# Altium integrated library TI Power Management Lighting and Display.IntLib: 745 symbols (part 47 of 48)
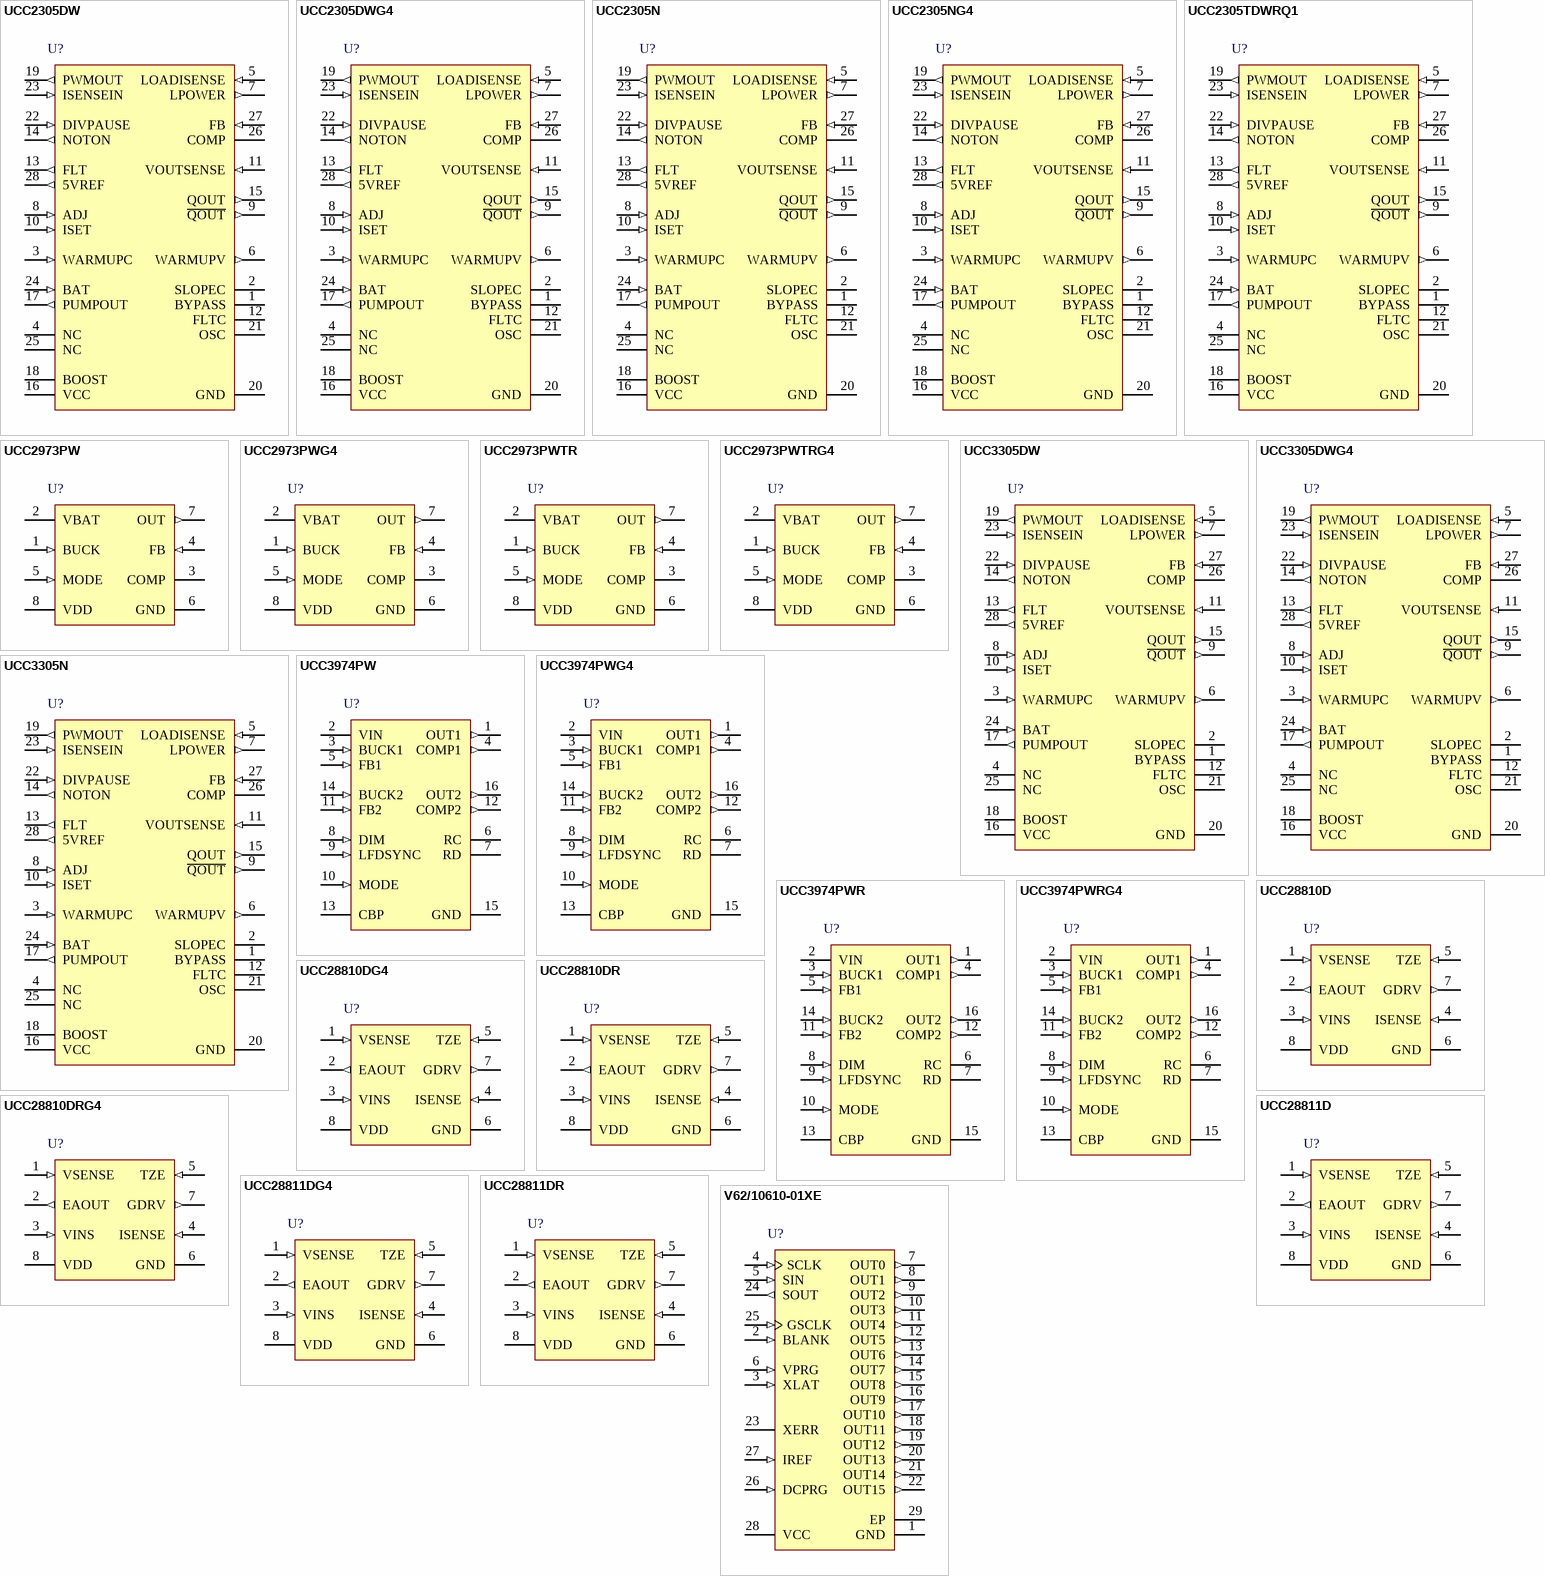
[diagram p77: symbols UCC2305DW to V62/10610-01XE]

## UCC2305NG4
designator U?
HID Lamp Controller, 5 to 18 V, -40 to 85 degC, 28-pin DIP (N28), Green (RoHS & no Sb/Br); Manufacturer: Texas Instruments; PartNumber: UCC2305NG4; Control Topology: Boost, Flyback; Frequency(Max)(kHz): 200; Open Lamp Detect: TRUE; Rating: Catalog; Vin(Max)(V): 18; Vin(Min)(V): 5; DatasheetVersion: SLUS297B; PackageVersion: 4040053/B; PackageReference: N28; PackageDescription: 28-Pin Plastic In-Line, Body 36.32 x 13.715 mm, Pitch 2.54 mm; Supplier 1: Digi-Key; Supplier Part Number 1: UCC2305NG4-ND; Supplier 2: Newark; Supplier Part Number 2: 34M0241; Supplier 3: Mouser; Supplier Part Number 3: 595-UCC2305NG4; Eco-Plan: Green (RoHS & no Sb/Br); SubFamily: HID Lamp Controller; Mounting Technology: Through Hole; Code_JEDEC: MS-011; ComponentLink1Description: Manufacturer URL; ComponentLink1URL: http://www.ti.com/; ComponentLink2Description: Datasheet; ComponentLink2URL: http://www.ti.com/general/docs/lit/getliterature.tsp?genericPartNumber=UCC2305&fileType=pdf; ComponentLink3Description: Package Specification; ComponentLink3URL: http://www.ti.com/litv/pdf/mpdi008
footprint TI-N28 (DIP, 28-Leads, Body 36.32x13.715 mm, Pitch 2.54 mm)
pins: 1 BYPASS "The UCC3305 compensates for lamp temperature changes by changing the voltage on the SLOPEC and WARMUPC capacitors. These voltages rise as the lamp warms up. An internal calculation determines what power should be applied to (See Datasheet)", 2 SLOPEC "To track lamp warm-up and cool down, two capacitors connected to the UCC3305 charge and discharge.One is connected to SLOPEC. The other is connected to WARMUPC. The capacitor connected to SLOPEC charges up to 5V with a rate (See Datasheet)", 3 WARMUPC (in) "In addition to the capacitor from SLOPEC to GND, lamp temperature is estimated by the voltage on a capacitor from WARMUPC to GND. This capacitor is charged by a 200nA current source to 4.2V and by a 100nA current source from (See Datasheet)", 4 NC, 5 LOADISENSE (in) "Just as ISENSEIN is normally connected to a current sense resistor which monitors battery current, LOADISENSE is normally connected to a resistor which monitors lamp current. Lamp current is then regulated by the controller (See Datasheet)", 6 WARMUPV (out) "The voltage on WARMUPC is used to modulate the signal fed to the error amplifier through FB. However, the impedance on WARMUPC is too high to be directly used. The UCC3305 contains a buffer amplifier which buffers the (See Datasheet)", 7 LPOWER (out) "LOADISENSE directly drives one input of an op amp in the UCC3305. This amplifier amplifies the difference between the desired load current and the actual load current, and generates an output signal on LPOWER which feeds the (See Datasheet)", 8 ADJ (in) "The ratio of cold lamp peak current to warmed-up lamp peak current is controlled by the voltage on ADJ. To select this voltage, connect a resistor from ADJ to GND.", 9 ~{QOUT} (out) "The UCC3305 is immediately configured for DC HID lamps. To operate with AC HID lamps, it is necessary to add a power H-bridge which will toggle lamp voltage. A practical switching frequency for this toggle function is the (See Datasheet)", 10 ISET (in) "Many functions inside the UCC3305 require precise currents to give well controlled performance. These controlled currents are programmed by a resistor from  ISET to GND. A resistor of 100k programs the IC to normal operating (See Datasheet)", 11 VOUTSENSE (in) "The VOUTSENSE input is used to sense lamp voltage, commonly through a 120:1 voltage divider. For a normal, running HID lamp, the voltage across the lamp is between 60V and 110V. It takes higher than 300V to break down the (See Datasheet)", 12 FLTC "The voltage on VOUTSENSE is proportional to lamp voltage. If that voltage is too high or too low, the lamp is either open, shorted, or not yet running. During normal operation, there is a capacitor connected to FLTC, and (See Datasheet)", 13 FLT (out) "If the voltage on the FLTC pin exceeds 5V, indicating a severe fault, then a latch in the UCC3305 sets and PWM drive is halted. In addition, the FLT output goes high to VCC, indicating a serious system fault.", 14 NOTON (out) "While the lamp is in a fault condition, such as excessively high or low lamp voltage, NOTON is pulled high to VCC, indicating that the arc is not yet correct. When the voltage on VOUTSENSE is within the 83mV to 2V window, (See Datasheet)", 15 QOUT (out) "The QOUT pin is a logic output which toggles at the OSC frequency divided by 512, 180 degrees out of phase with the Q\O\U\T\ pin.", 16 VCC (power) "Supply Voltage", 17 PUMPOUT (out) "Although the UCC3305 is powered from the VCC input, most functions of the device operate from a supply voltage of approximately 10V connected to BOOST. In normal operation, this 10V supply is generated by a voltage doubler (See Datasheet)", 18 BOOST (power) "Although the UCC3305 is powered from the VCC input, most functions of the device operate from a supply voltage of approximately 10V connected to BOOST. This 10V supply can be generated by a voltage doubler using PUMPOUT as (See Datasheet)", 19 PWMOUT (out) "The output of the pulse width modulator is a command signal to a power MOSFET switch. This signal appears on PWMOUT. In normal systems,PWM-OUT can be directly connected to the gate of an N-channel power MOSFET such as the (See Datasheet)", 20 GND (power) "Ground for all functions is through this pin.", 21 OSC "The fixed frequency PWM in the UCC3305 operates at the frequency programmed by the OSC pin.Typically, a a 200pF capacitor from OSC to GND programs the PWM frequency at 100kHz. In addition, this programs the charge pump at (See Datasheet)", 22 DIVPAUSE (in) "The QOUT and Q\O\U\T\ outputs can be used to switch lamp polarity in an AC ballast. It is important to stop polarity switching when the lamp is being lit, so that the arc across the electrodes can form in the correct place. (See Datasheet)", 23 ISENSEIN (in) "The power regulating algorithm in the UCC3305 HID Controller computes a function of lamp current and lamp voltage and commands the appropriate battery current to keep lamp power constant. This appropriate battery current is (See Datasheet)", 24 BAT (in) "This input is used to detect excessively high input voltage and shut down the IC if the input exceeds a predetermined level. Connect BAT to a voltage divider across the input supply. The UCC3305 shuts down when this input (See Datasheet)", 25 NC, 26 COMP "Differences between commanded lamp power and desired lamp power are amplified by an error amplifier.This amplifier senses the difference between the voltage at FB and 2.5V, and drives COMP with an amplified error voltage. A (See Datasheet)", 27 FB (in) "Differences between commanded lamp power and desired lamp power are amplified by an error amplifier.This amplifier senses the difference between the voltage at FB and 2.5V, and drives COMP with an amplified error voltage.", 28 5VREF (out) "Circuitry in the UCC3305 uses the internal 5V reference to set currents and thresholds. This reference can also be used for other functions if required."

## UCC2305TDWRQ1
designator U?
Automotive Catalog HID Lamp Controller, 5 to 18 V, -40 to 105 degC, 28-pin SOIC (DW28), Green (RoHS & no Sb/Br); Manufacturer: Texas Instruments; PartNumber: UCC2305TDWRQ1; Control Topology: Boost, Flyback; Frequency(Max)(kHz): 200; Open Lamp Detect: TRUE; Vin(Max)(V): 18; Vin(Min)(V): 5; DatasheetVersion: SLUSA23; PackageVersion: 4040000-6/G; PackageReference: DW28; PackageDescription: 28-Pin Plastic Small Outline, Body 17.90 x 7.50 mm, Pitch 1.27 mm; Supplier 1: Digi-Key; Supplier Part Number 1: 296-25744-2-ND; Supplier 2: Digi-Key; Supplier Part Number 2: 296-25744-1-ND; Supplier 3: Digi-Key; Supplier Part Number 3: 296-25744-6-ND; Supplier 4: Newark; Supplier Part Number 4: 64R0808; Supplier 5: Mouser; Supplier Part Number 5: 595-UCC2305TDWRQ1; Eco-Plan: Green (RoHS & no Sb/Br); Rating: Automotive; SubFamily: HID Lamp Controller; Mounting Technology: Surface Mount; Code_JEDEC: MS-013; ComponentLink1Description: Manufacturer URL; ComponentLink1URL: http://www.ti.com/; ComponentLink2Description: Datasheet; ComponentLink2URL: http://www.ti.com/general/docs/lit/getliterature.tsp?genericPartNumber=UCC2305-Q1&fileType=pdf; ComponentLink3Description: Package Specification; ComponentLink3URL: http://www.ti.com/lit/ml/mpds175a/mpds175a.pdf
footprint TI-DW28_N (SOIC, 28-Leads, Body 17.9x7.5mm, Pitch 1.27mm, IPC Medium Density)
footprint TI-DW28_L (SOIC, 28-Leads, Body 17.9x7.5mm, Pitch 1.27mm, IPC High Density)
footprint TI-DW28_M (SOIC, 28-Leads, Body 17.9x7.5mm, Pitch 1.27mm, IPC Low Density)
pins: 1 BYPASS "The UCC3305 compensates for lamp temperature changes by changing the voltage on the SLOPEC and WARMUPC capacitors. These voltages rise as the lamp warms up. An internal calculation determines what power should be applied to (See Datasheet)", 2 SLOPEC "To track lamp warm-up and cool down, two capacitors connected to the UCC3305 charge and discharge.One is connected to SLOPEC. The other is connected to WARMUPC. The capacitor connected to SLOPEC charges up to 5V with a rate (See Datasheet)", 3 WARMUPC (in) "In addition to the capacitor from SLOPEC to GND, lamp temperature is estimated by the voltage on a capacitor from WARMUPC to GND. This capacitor is charged by a 200nA current source to 4.2V and by a 100nA current source from (See Datasheet)", 4 NC, 5 LOADISENSE (in) "Just as ISENSEIN is normally connected to a current sense resistor which monitors battery current, LOADISENSE is normally connected to a resistor which monitors lamp current. Lamp current is then regulated by the controller (See Datasheet)", 6 WARMUPV (out) "The voltage on WARMUPC is used to modulate the signal fed to the error amplifier through FB. However, the impedance on WARMUPC is too high to be directly used. The UCC3305 contains a buffer amplifier which buffers the (See Datasheet)", 7 LPOWER (out) "LOADISENSE directly drives one input of an op amp in the UCC3305. This amplifier amplifies the difference between the desired load current and the actual load current, and generates an output signal on LPOWER which feeds the (See Datasheet)", 8 ADJ (in) "The ratio of cold lamp peak current to warmed-up lamp peak current is controlled by the voltage on ADJ. To select this voltage, connect a resistor from ADJ to GND.", 9 ~{QOUT} (out) "The UCC3305 is immediately configured for DC HID lamps. To operate with AC HID lamps, it is necessary to add a power H-bridge which will toggle lamp voltage. A practical switching frequency for this toggle function is the (See Datasheet)", 10 ISET (in) "Many functions inside the UCC3305 require precise currents to give well controlled performance. These controlled currents are programmed by a resistor from  ISET to GND. A resistor of 100k programs the IC to normal operating (See Datasheet)", 11 VOUTSENSE (in) "The VOUTSENSE input is used to sense lamp voltage, commonly through a 120:1 voltage divider. For a normal, running HID lamp, the voltage across the lamp is between 60V and 110V. It takes higher than 300V to break down the (See Datasheet)", 12 FLTC "The voltage on VOUTSENSE is proportional to lamp voltage. If that voltage is too high or too low, the lamp is either open, shorted, or not yet running. During normal operation, there is a capacitor connected to FLTC, and (See Datasheet)", 13 FLT (out) "If the voltage on the FLTC pin exceeds 5V, indicating a severe fault, then a latch in the UCC3305 sets and PWM drive is halted. In addition, the FLT output goes high to VCC, indicating a serious system fault.", 14 NOTON (out) "While the lamp is in a fault condition, such as excessively high or low lamp voltage, NOTON is pulled high to VCC, indicating that the arc is not yet correct. When the voltage on VOUTSENSE is within the 83mV to 2V window, (See Datasheet)", 15 QOUT (out) "The QOUT pin is a logic output which toggles at the OSC frequency divided by 512, 180 degrees out of phase with the Q\O\U\T\ pin.", 16 VCC (power) "Supply Voltage", 17 PUMPOUT (out) "Although the UCC3305 is powered from the VCC input, most functions of the device operate from a supply voltage of approximately 10V connected to BOOST. In normal operation, this 10V supply is generated by a voltage doubler (See Datasheet)", 18 BOOST (power) "Although the UCC3305 is powered from the VCC input, most functions of the device operate from a supply voltage of approximately 10V connected to BOOST. This 10V supply can be generated by a voltage doubler using PUMPOUT as (See Datasheet)", 19 PWMOUT (out) "The output of the pulse width modulator is a command signal to a power MOSFET switch. This signal appears on PWMOUT. In normal systems,PWM-OUT can be directly connected to the gate of an N-channel power MOSFET such as the (See Datasheet)", 20 GND (power) "Ground for all functions is through this pin.", 21 OSC "The fixed frequency PWM in the UCC3305 operates at the frequency programmed by the OSC pin.Typically, a a 200pF capacitor from OSC to GND programs the PWM frequency at 100kHz. In addition, this programs the charge pump at (See Datasheet)", 22 DIVPAUSE (in) "The QOUT and Q\O\U\T\ outputs can be used to switch lamp polarity in an AC ballast. It is important to stop polarity switching when the lamp is being lit, so that the arc across the electrodes can form in the correct place. (See Datasheet)", 23 ISENSEIN (in) "The power regulating algorithm in the UCC3305 HID Controller computes a function of lamp current and lamp voltage and commands the appropriate battery current to keep lamp power constant. This appropriate battery current is (See Datasheet)", 24 BAT (in) "This input is used to detect excessively high input voltage and shut down the IC if the input exceeds a predetermined level. Connect BAT to a voltage divider across the input supply. The UCC3305 shuts down when this input (See Datasheet)", 25 NC, 26 COMP "Differences between commanded lamp power and desired lamp power are amplified by an error amplifier.This amplifier senses the difference between the voltage at FB and 2.5V, and drives COMP with an amplified error voltage. A (See Datasheet)", 27 FB (in) "Differences between commanded lamp power and desired lamp power are amplified by an error amplifier.This amplifier senses the difference between the voltage at FB and 2.5V, and drives COMP with an amplified error voltage.", 28 5VREF (out) "Circuitry in the UCC3305 uses the internal 5V reference to set currents and thresholds. This reference can also be used for other functions if required."

## UCC2973PW
designator U?
BiCMOS Cold Cathode Fluorescent Lamp Driver Controller, 4.5 to 25 V, -40 to 85 degC, 8-pin SOP (PW8), Green (RoHS & no Sb/Br); Manufacturer: Texas Instruments; PartNumber: UCC2973PW; Control Topology: Push-Pull; Frequency(Max)(kHz): 220; Open Lamp Detect: TRUE; Rating: Catalog; SubFamily: CCFL Backlight Converter; Vin(Max)(V): 25; Vin(Min)(V): 4.5; DatasheetVersion: SLUS252C; PackageVersion: 4040064-2/G; PackageReference: PW8; PackageDescription: 8-Pin Plastic Small Outline, Body 4.4 x 3 mm, Pitch 0.65 mm; Supplier 1: Digi-Key; Supplier Part Number 1: 296-13533-5-ND; Supplier 2: Newark; Supplier Part Number 2: 77C2240; Supplier 3: Mouser; Supplier Part Number 3: 595-UCC2973PW; Eco-Plan: Green (RoHS & no Sb/Br); Mounting Technology: Surface Mount; Code_JEDEC: MO-153; ComponentLink1Description: Manufacturer URL; ComponentLink1URL: http://www.ti.com/; ComponentLink2Description: Datasheet; ComponentLink2URL: http://www.ti.com/general/docs/lit/getliterature.tsp?genericPartNumber=UCC2973&fileType=pdf; ComponentLink3Description: Package Specification; ComponentLink3URL: http://www.ti.com/litv/pdf/mtss001d
footprint TI-PW8_N (SOP, 8-Leads, Body 4.4x3mm, Pitch 0.65mm, IPC Medium Density)
footprint TI-PW8_L (SOP, 8-Leads, Body 4.4x3mm, Pitch 0.65mm, IPC High Density)
footprint TI-PW8_M (SOP, 8-Leads, Body 4.4x3mm, Pitch 0.65mm, IPC Low Density)
pins: 1 BUCK (in) "Senses the voltage on the top side of the inductor feeding the resonant tank. The voltage at this point is used to synchronize the internally generated ramp and to detect whether an open lamp condition exists. An open lamp (See Datasheet)", 2 VBAT (power) "Positive input supply to power stage. This voltage is required by internal control circuitry to provide open-lamp detection and synchronization. Operating range is from 4.5V to 25V.", 3 COMP "Output of the error amplifier.Compensation components set the bandwidth of the entire system and are normally connected between COMP and FB. The error amplifier averages lamp current against a fixed internal reference. The (See Datasheet)", 4 FB (in) "This pin is the inverting input to the error amplifier. On the UCC3973, current is sourced form this pin if the clamp threshold is exceeded at the BUCK pin (see below). The sourced current will reduce OUT duty cycle to (See Datasheet)", 5 MODE (in) "The voltage on this pin is used to control start-up and various modes of operation for the part (refer to the table in the block diagram). When the voltage is below 1V, OUT is forced low, open lamp detection is disabled and (See Datasheet)", 6 GND (power) "Ground reference for the IC.", 7 OUT (out) "Drives the buck regulator N-channel MOSFET. OUT turn-on is synchronized to twice the tank resonant frequency. OUT is actively pulled low when in UVLO, an open lamp condition has been detected or MODE is less than 1V.", 8 VDD (power) "This pin connects to the battery voltage from which the CCFL inverter will operate. If the potential on VBAT can exceed 18V in the application, a series resistor must be placed between VBAT and this pin (see applications (See Datasheet)"

## UCC2973PWG4
designator U?
BiCMOS Cold Cathode Fluorescent Lamp Driver Controller, 4.5 to 25 V, -40 to 85 degC, 8-pin SOP (PW8), Green (RoHS & no Sb/Br); Manufacturer: Texas Instruments; PartNumber: UCC2973PWG4; Control Topology: Push-Pull; Frequency(Max)(kHz): 220; Open Lamp Detect: TRUE; Rating: Catalog; SubFamily: CCFL Backlight Converter; Vin(Max)(V): 25; Vin(Min)(V): 4.5; DatasheetVersion: SLUS252C; PackageVersion: 4040064-2/G; PackageReference: PW8; PackageDescription: 8-Pin Plastic Small Outline, Body 4.4 x 3 mm, Pitch 0.65 mm; Supplier 1: Digi-Key; Supplier Part Number 1: UCC2973PWG4-ND; Supplier 2: Newark; Supplier Part Number 2: 66K4869; Supplier 3: Mouser; Supplier Part Number 3: 595-UCC2973PWG4; Eco-Plan: Green (RoHS & no Sb/Br); Mounting Technology: Surface Mount; Code_JEDEC: MO-153; ComponentLink1Description: Manufacturer URL; ComponentLink1URL: http://www.ti.com/; ComponentLink2Description: Datasheet; ComponentLink2URL: http://www.ti.com/general/docs/lit/getliterature.tsp?genericPartNumber=UCC2973&fileType=pdf; ComponentLink3Description: Package Specification; ComponentLink3URL: http://www.ti.com/litv/pdf/mtss001d
footprint TI-PW8_N (SOP, 8-Leads, Body 4.4x3mm, Pitch 0.65mm, IPC Medium Density)
footprint TI-PW8_L (SOP, 8-Leads, Body 4.4x3mm, Pitch 0.65mm, IPC High Density)
footprint TI-PW8_M (SOP, 8-Leads, Body 4.4x3mm, Pitch 0.65mm, IPC Low Density)
pins: 1 BUCK (in) "Senses the voltage on the top side of the inductor feeding the resonant tank. The voltage at this point is used to synchronize the internally generated ramp and to detect whether an open lamp condition exists. An open lamp (See Datasheet)", 2 VBAT (power) "Positive input supply to power stage. This voltage is required by internal control circuitry to provide open-lamp detection and synchronization. Operating range is from 4.5V to 25V.", 3 COMP "Output of the error amplifier.Compensation components set the bandwidth of the entire system and are normally connected between COMP and FB. The error amplifier averages lamp current against a fixed internal reference. The (See Datasheet)", 4 FB (in) "This pin is the inverting input to the error amplifier. On the UCC3973, current is sourced form this pin if the clamp threshold is exceeded at the BUCK pin (see below). The sourced current will reduce OUT duty cycle to (See Datasheet)", 5 MODE (in) "The voltage on this pin is used to control start-up and various modes of operation for the part (refer to the table in the block diagram). When the voltage is below 1V, OUT is forced low, open lamp detection is disabled and (See Datasheet)", 6 GND (power) "Ground reference for the IC.", 7 OUT (out) "Drives the buck regulator N-channel MOSFET. OUT turn-on is synchronized to twice the tank resonant frequency. OUT is actively pulled low when in UVLO, an open lamp condition has been detected or MODE is less than 1V.", 8 VDD (power) "This pin connects to the battery voltage from which the CCFL inverter will operate. If the potential on VBAT can exceed 18V in the application, a series resistor must be placed between VBAT and this pin (see applications (See Datasheet)"

## UCC2973PWTR
designator U?
BiCMOS Cold Cathode Fluorescent Lamp Driver Controller, 4.5 to 25 V, -40 to 85 degC, 8-pin SOP (PW8), Green (RoHS & no Sb/Br); Manufacturer: Texas Instruments; PartNumber: UCC2973PWTR; Control Topology: Push-Pull; Frequency(Max)(kHz): 220; Open Lamp Detect: TRUE; Rating: Catalog; SubFamily: CCFL Backlight Converter; Vin(Max)(V): 25; Vin(Min)(V): 4.5; DatasheetVersion: SLUS252C; PackageVersion: 4040064-2/G; PackageReference: PW8; PackageDescription: 8-Pin Plastic Small Outline, Body 4.4 x 3 mm, Pitch 0.65 mm; Supplier 1: Digi-Key; Supplier Part Number 1: UCC2973PWTR-ND; Supplier 2: Newark; Supplier Part Number 2: 77C2241; Supplier 3: Mouser; Supplier Part Number 3: 595-UCC2973PWTR; Eco-Plan: Green (RoHS & no Sb/Br); Mounting Technology: Surface Mount; Code_JEDEC: MO-153; ComponentLink1Description: Manufacturer URL; ComponentLink1URL: http://www.ti.com/; ComponentLink2Description: Datasheet; ComponentLink2URL: http://www.ti.com/general/docs/lit/getliterature.tsp?genericPartNumber=UCC2973&fileType=pdf; ComponentLink3Description: Package Specification; ComponentLink3URL: http://www.ti.com/litv/pdf/mtss001d
footprint TI-PW8_N (SOP, 8-Leads, Body 4.4x3mm, Pitch 0.65mm, IPC Medium Density)
footprint TI-PW8_L (SOP, 8-Leads, Body 4.4x3mm, Pitch 0.65mm, IPC High Density)
footprint TI-PW8_M (SOP, 8-Leads, Body 4.4x3mm, Pitch 0.65mm, IPC Low Density)
pins: 1 BUCK (in) "Senses the voltage on the top side of the inductor feeding the resonant tank. The voltage at this point is used to synchronize the internally generated ramp and to detect whether an open lamp condition exists. An open lamp (See Datasheet)", 2 VBAT (power) "Positive input supply to power stage. This voltage is required by internal control circuitry to provide open-lamp detection and synchronization. Operating range is from 4.5V to 25V.", 3 COMP "Output of the error amplifier.Compensation components set the bandwidth of the entire system and are normally connected between COMP and FB. The error amplifier averages lamp current against a fixed internal reference. The (See Datasheet)", 4 FB (in) "This pin is the inverting input to the error amplifier. On the UCC3973, current is sourced form this pin if the clamp threshold is exceeded at the BUCK pin (see below). The sourced current will reduce OUT duty cycle to (See Datasheet)", 5 MODE (in) "The voltage on this pin is used to control start-up and various modes of operation for the part (refer to the table in the block diagram). When the voltage is below 1V, OUT is forced low, open lamp detection is disabled and (See Datasheet)", 6 GND (power) "Ground reference for the IC.", 7 OUT (out) "Drives the buck regulator N-channel MOSFET. OUT turn-on is synchronized to twice the tank resonant frequency. OUT is actively pulled low when in UVLO, an open lamp condition has been detected or MODE is less than 1V.", 8 VDD (power) "This pin connects to the battery voltage from which the CCFL inverter will operate. If the potential on VBAT can exceed 18V in the application, a series resistor must be placed between VBAT and this pin (see applications (See Datasheet)"

## UCC2973PWTRG4
designator U?
BiCMOS Cold Cathode Fluorescent Lamp Driver Controller, 4.5 to 25 V, -40 to 85 degC, 8-pin SOP (PW8), Green (RoHS & no Sb/Br); Manufacturer: Texas Instruments; PartNumber: UCC2973PWTRG4; Control Topology: Push-Pull; Frequency(Max)(kHz): 220; Open Lamp Detect: TRUE; Rating: Catalog; SubFamily: CCFL Backlight Converter; Vin(Max)(V): 25; Vin(Min)(V): 4.5; DatasheetVersion: SLUS252C; PackageVersion: 4040064-2/G; PackageReference: PW8; PackageDescription: 8-Pin Plastic Small Outline, Body 4.4 x 3 mm, Pitch 0.65 mm; Supplier 1: Digi-Key; Supplier Part Number 1: UCC2973PWTRG4-ND; Supplier 2: Newark; Supplier Part Number 2: 54K2083; Supplier 3: Mouser; Supplier Part Number 3: 595-UCC2973PWTRG4; Eco-Plan: Green (RoHS & no Sb/Br); Mounting Technology: Surface Mount; Code_JEDEC: MO-153; ComponentLink1Description: Manufacturer URL; ComponentLink1URL: http://www.ti.com/; ComponentLink2Description: Datasheet; ComponentLink2URL: http://www.ti.com/general/docs/lit/getliterature.tsp?genericPartNumber=UCC2973&fileType=pdf; ComponentLink3Description: Package Specification; ComponentLink3URL: http://www.ti.com/litv/pdf/mtss001d
footprint TI-PW8_N (SOP, 8-Leads, Body 4.4x3mm, Pitch 0.65mm, IPC Medium Density)
footprint TI-PW8_L (SOP, 8-Leads, Body 4.4x3mm, Pitch 0.65mm, IPC High Density)
footprint TI-PW8_M (SOP, 8-Leads, Body 4.4x3mm, Pitch 0.65mm, IPC Low Density)
pins: 1 BUCK (in) "Senses the voltage on the top side of the inductor feeding the resonant tank. The voltage at this point is used to synchronize the internally generated ramp and to detect whether an open lamp condition exists. An open lamp (See Datasheet)", 2 VBAT (power) "Positive input supply to power stage. This voltage is required by internal control circuitry to provide open-lamp detection and synchronization. Operating range is from 4.5V to 25V.", 3 COMP "Output of the error amplifier.Compensation components set the bandwidth of the entire system and are normally connected between COMP and FB. The error amplifier averages lamp current against a fixed internal reference. The (See Datasheet)", 4 FB (in) "This pin is the inverting input to the error amplifier. On the UCC3973, current is sourced form this pin if the clamp threshold is exceeded at the BUCK pin (see below). The sourced current will reduce OUT duty cycle to (See Datasheet)", 5 MODE (in) "The voltage on this pin is used to control start-up and various modes of operation for the part (refer to the table in the block diagram). When the voltage is below 1V, OUT is forced low, open lamp detection is disabled and (See Datasheet)", 6 GND (power) "Ground reference for the IC.", 7 OUT (out) "Drives the buck regulator N-channel MOSFET. OUT turn-on is synchronized to twice the tank resonant frequency. OUT is actively pulled low when in UVLO, an open lamp condition has been detected or MODE is less than 1V.", 8 VDD (power) "This pin connects to the battery voltage from which the CCFL inverter will operate. If the potential on VBAT can exceed 18V in the application, a series resistor must be placed between VBAT and this pin (see applications (See Datasheet)"

## UCC3305DW
designator U?
HID Lamp Controller, 5 to 18 V, 0 to 70 degC, 28-pin SOIC (DW28), Green (RoHS & no Sb/Br); Manufacturer: Texas Instruments; PartNumber: UCC3305DW; Control Topology: Boost, Flyback; Frequency(Max)(kHz): 200; Open Lamp Detect: TRUE; Rating: Catalog; Vin(Max)(V): 18; Vin(Min)(V): 5; DatasheetVersion: SLUS297B; PackageVersion: 4040000-6/G; PackageReference: DW28; PackageDescription: 28-Pin Plastic Small Outline, Body 17.90 x 7.50 mm, Pitch 1.27 mm; Supplier 1: Digi-Key; Supplier Part Number 1: 296-34762-5-ND; Supplier 2: Newark; Supplier Part Number 2: 77C2248; Supplier 3: Mouser; Supplier Part Number 3: 595-UCC3305DW; Eco-Plan: Green (RoHS & no Sb/Br); SubFamily: HID Lamp Controller; Mounting Technology: Surface Mount; Code_JEDEC: MS-013; ComponentLink1Description: Manufacturer URL; ComponentLink1URL: http://www.ti.com/; ComponentLink2Description: Datasheet; ComponentLink2URL: http://www.ti.com/general/docs/lit/getliterature.tsp?genericPartNumber=UCC3305&fileType=pdf; ComponentLink3Description: Package Specification; ComponentLink3URL: http://www.ti.com/lit/ml/mpds175a/mpds175a.pdf
footprint TI-DW28_N (SOIC, 28-Leads, Body 17.9x7.5mm, Pitch 1.27mm, IPC Medium Density)
footprint TI-DW28_L (SOIC, 28-Leads, Body 17.9x7.5mm, Pitch 1.27mm, IPC High Density)
footprint TI-DW28_M (SOIC, 28-Leads, Body 17.9x7.5mm, Pitch 1.27mm, IPC Low Density)
pins: 1 BYPASS "The UCC3305 compensates for lamp temperature changes by changing the voltage on the SLOPEC and WARMUPC capacitors. These voltages rise as the lamp warms up. An internal calculation determines what power should be applied to (See Datasheet)", 2 SLOPEC "To track lamp warm-up and cool down, two capacitors connected to the UCC3305 charge and discharge.One is connected to SLOPEC. The other is connected to WARMUPC. The capacitor connected to SLOPEC charges up to 5V with a rate (See Datasheet)", 3 WARMUPC (in) "In addition to the capacitor from SLOPEC to GND, lamp temperature is estimated by the voltage on a capacitor from WARMUPC to GND. This capacitor is charged by a 200nA current source to 4.2V and by a 100nA current source from (See Datasheet)", 4 NC, 5 LOADISENSE (in) "Just as ISENSEIN is normally connected to a current sense resistor which monitors battery current, LOADISENSE is normally connected to a resistor which monitors lamp current. Lamp current is then regulated by the controller (See Datasheet)", 6 WARMUPV (out) "The voltage on WARMUPC is used to modulate the signal fed to the error amplifier through FB. However, the impedance on WARMUPC is too high to be directly used. The UCC3305 contains a buffer amplifier which buffers the (See Datasheet)", 7 LPOWER (out) "LOADISENSE directly drives one input of an op amp in the UCC3305. This amplifier amplifies the difference between the desired load current and the actual load current, and generates an output signal on LPOWER which feeds the (See Datasheet)", 8 ADJ (in) "The ratio of cold lamp peak current to warmed-up lamp peak current is controlled by the voltage on ADJ. To select this voltage, connect a resistor from ADJ to GND.", 9 ~{QOUT} (out) "The UCC3305 is immediately configured for DC HID lamps. To operate with AC HID lamps, it is necessary to add a power H-bridge which will toggle lamp voltage. A practical switching frequency for this toggle function is the (See Datasheet)", 10 ISET (in) "Many functions inside the UCC3305 require precise currents to give well controlled performance. These controlled currents are programmed by a resistor from  ISET to GND. A resistor of 100k programs the IC to normal operating (See Datasheet)", 11 VOUTSENSE (in) "The VOUTSENSE input is used to sense lamp voltage, commonly through a 120:1 voltage divider. For a normal, running HID lamp, the voltage across the lamp is between 60V and 110V. It takes higher than 300V to break down the (See Datasheet)", 12 FLTC "The voltage on VOUTSENSE is proportional to lamp voltage. If that voltage is too high or too low, the lamp is either open, shorted, or not yet running. During normal operation, there is a capacitor connected to FLTC, and (See Datasheet)", 13 FLT (out) "If the voltage on the FLTC pin exceeds 5V, indicating a severe fault, then a latch in the UCC3305 sets and PWM drive is halted. In addition, the FLT output goes high to VCC, indicating a serious system fault.", 14 NOTON (out) "While the lamp is in a fault condition, such as excessively high or low lamp voltage, NOTON is pulled high to VCC, indicating that the arc is not yet correct. When the voltage on VOUTSENSE is within the 83mV to 2V window, (See Datasheet)", 15 QOUT (out) "The QOUT pin is a logic output which toggles at the OSC frequency divided by 512, 180 degrees out of phase with the Q\O\U\T\ pin.", 16 VCC (power) "Supply Voltage", 17 PUMPOUT (out) "Although the UCC3305 is powered from the VCC input, most functions of the device operate from a supply voltage of approximately 10V connected to BOOST. In normal operation, this 10V supply is generated by a voltage doubler (See Datasheet)", 18 BOOST (power) "Although the UCC3305 is powered from the VCC input, most functions of the device operate from a supply voltage of approximately 10V connected to BOOST. This 10V supply can be generated by a voltage doubler using PUMPOUT as (See Datasheet)", 19 PWMOUT (out) "The output of the pulse width modulator is a command signal to a power MOSFET switch. This signal appears on PWMOUT. In normal systems,PWM-OUT can be directly connected to the gate of an N-channel power MOSFET such as the (See Datasheet)", 20 GND (power) "Ground for all functions is through this pin.", 21 OSC "The fixed frequency PWM in the UCC3305 operates at the frequency programmed by the OSC pin.Typically, a a 200pF capacitor from OSC to GND programs the PWM frequency at 100kHz. In addition, this programs the charge pump at (See Datasheet)", 22 DIVPAUSE (in) "The QOUT and Q\O\U\T\ outputs can be used to switch lamp polarity in an AC ballast. It is important to stop polarity switching when the lamp is being lit, so that the arc across the electrodes can form in the correct place. (See Datasheet)", 23 ISENSEIN (in) "The power regulating algorithm in the UCC3305 HID Controller computes a function of lamp current and lamp voltage and commands the appropriate battery current to keep lamp power constant. This appropriate battery current is (See Datasheet)", 24 BAT (in) "This input is used to detect excessively high input voltage and shut down the IC if the input exceeds a predetermined level. Connect BAT to a voltage divider across the input supply. The UCC3305 shuts down when this input (See Datasheet)", 25 NC, 26 COMP "Differences between commanded lamp power and desired lamp power are amplified by an error amplifier.This amplifier senses the difference between the voltage at FB and 2.5V, and drives COMP with an amplified error voltage. A (See Datasheet)", 27 FB (in) "Differences between commanded lamp power and desired lamp power are amplified by an error amplifier.This amplifier senses the difference between the voltage at FB and 2.5V, and drives COMP with an amplified error voltage.", 28 5VREF (out) "Circuitry in the UCC3305 uses the internal 5V reference to set currents and thresholds. This reference can also be used for other functions if required."

## UCC3305DWG4
designator U?
HID Lamp Controller, 5 to 18 V, 0 to 70 degC, 28-pin SOIC (DW28), Green (RoHS & no Sb/Br); Manufacturer: Texas Instruments; PartNumber: UCC3305DWG4; Control Topology: Boost, Flyback; Frequency(Max)(kHz): 200; Open Lamp Detect: TRUE; Rating: Catalog; Vin(Max)(V): 18; Vin(Min)(V): 5; DatasheetVersion: SLUS297B; PackageVersion: 4040000-6/G; PackageReference: DW28; PackageDescription: 28-Pin Plastic Small Outline, Body 17.90 x 7.50 mm, Pitch 1.27 mm; Supplier 1: Digi-Key; Supplier Part Number 1: UCC3305DWG4-ND; Supplier 2: Newark; Supplier Part Number 2: 54K2087; Supplier 3: Mouser; Supplier Part Number 3: 595-UCC3305DWG4; Eco-Plan: Green (RoHS & no Sb/Br); SubFamily: HID Lamp Controller; Mounting Technology: Surface Mount; Code_JEDEC: MS-013; ComponentLink1Description: Manufacturer URL; ComponentLink1URL: http://www.ti.com/; ComponentLink2Description: Datasheet; ComponentLink2URL: http://www.ti.com/general/docs/lit/getliterature.tsp?genericPartNumber=UCC3305&fileType=pdf; ComponentLink3Description: Package Specification; ComponentLink3URL: http://www.ti.com/lit/ml/mpds175a/mpds175a.pdf
footprint TI-DW28_N (SOIC, 28-Leads, Body 17.9x7.5mm, Pitch 1.27mm, IPC Medium Density)
footprint TI-DW28_L (SOIC, 28-Leads, Body 17.9x7.5mm, Pitch 1.27mm, IPC High Density)
footprint TI-DW28_M (SOIC, 28-Leads, Body 17.9x7.5mm, Pitch 1.27mm, IPC Low Density)
pins: 1 BYPASS "The UCC3305 compensates for lamp temperature changes by changing the voltage on the SLOPEC and WARMUPC capacitors. These voltages rise as the lamp warms up. An internal calculation determines what power should be applied to (See Datasheet)", 2 SLOPEC "To track lamp warm-up and cool down, two capacitors connected to the UCC3305 charge and discharge.One is connected to SLOPEC. The other is connected to WARMUPC. The capacitor connected to SLOPEC charges up to 5V with a rate (See Datasheet)", 3 WARMUPC (in) "In addition to the capacitor from SLOPEC to GND, lamp temperature is estimated by the voltage on a capacitor from WARMUPC to GND. This capacitor is charged by a 200nA current source to 4.2V and by a 100nA current source from (See Datasheet)", 4 NC, 5 LOADISENSE (in) "Just as ISENSEIN is normally connected to a current sense resistor which monitors battery current, LOADISENSE is normally connected to a resistor which monitors lamp current. Lamp current is then regulated by the controller (See Datasheet)", 6 WARMUPV (out) "The voltage on WARMUPC is used to modulate the signal fed to the error amplifier through FB. However, the impedance on WARMUPC is too high to be directly used. The UCC3305 contains a buffer amplifier which buffers the (See Datasheet)", 7 LPOWER (out) "LOADISENSE directly drives one input of an op amp in the UCC3305. This amplifier amplifies the difference between the desired load current and the actual load current, and generates an output signal on LPOWER which feeds the (See Datasheet)", 8 ADJ (in) "The ratio of cold lamp peak current to warmed-up lamp peak current is controlled by the voltage on ADJ. To select this voltage, connect a resistor from ADJ to GND.", 9 ~{QOUT} (out) "The UCC3305 is immediately configured for DC HID lamps. To operate with AC HID lamps, it is necessary to add a power H-bridge which will toggle lamp voltage. A practical switching frequency for this toggle function is the (See Datasheet)", 10 ISET (in) "Many functions inside the UCC3305 require precise currents to give well controlled performance. These controlled currents are programmed by a resistor from  ISET to GND. A resistor of 100k programs the IC to normal operating (See Datasheet)", 11 VOUTSENSE (in) "The VOUTSENSE input is used to sense lamp voltage, commonly through a 120:1 voltage divider. For a normal, running HID lamp, the voltage across the lamp is between 60V and 110V. It takes higher than 300V to break down the (See Datasheet)", 12 FLTC "The voltage on VOUTSENSE is proportional to lamp voltage. If that voltage is too high or too low, the lamp is either open, shorted, or not yet running. During normal operation, there is a capacitor connected to FLTC, and (See Datasheet)", 13 FLT (out) "If the voltage on the FLTC pin exceeds 5V, indicating a severe fault, then a latch in the UCC3305 sets and PWM drive is halted. In addition, the FLT output goes high to VCC, indicating a serious system fault.", 14 NOTON (out) "While the lamp is in a fault condition, such as excessively high or low lamp voltage, NOTON is pulled high to VCC, indicating that the arc is not yet correct. When the voltage on VOUTSENSE is within the 83mV to 2V window, (See Datasheet)", 15 QOUT (out) "The QOUT pin is a logic output which toggles at the OSC frequency divided by 512, 180 degrees out of phase with the Q\O\U\T\ pin.", 16 VCC (power) "Supply Voltage", 17 PUMPOUT (out) "Although the UCC3305 is powered from the VCC input, most functions of the device operate from a supply voltage of approximately 10V connected to BOOST. In normal operation, this 10V supply is generated by a voltage doubler (See Datasheet)", 18 BOOST (power) "Although the UCC3305 is powered from the VCC input, most functions of the device operate from a supply voltage of approximately 10V connected to BOOST. This 10V supply can be generated by a voltage doubler using PUMPOUT as (See Datasheet)", 19 PWMOUT (out) "The output of the pulse width modulator is a command signal to a power MOSFET switch. This signal appears on PWMOUT. In normal systems,PWM-OUT can be directly connected to the gate of an N-channel power MOSFET such as the (See Datasheet)", 20 GND (power) "Ground for all functions is through this pin.", 21 OSC "The fixed frequency PWM in the UCC3305 operates at the frequency programmed by the OSC pin.Typically, a a 200pF capacitor from OSC to GND programs the PWM frequency at 100kHz. In addition, this programs the charge pump at (See Datasheet)", 22 DIVPAUSE (in) "The QOUT and Q\O\U\T\ outputs can be used to switch lamp polarity in an AC ballast. It is important to stop polarity switching when the lamp is being lit, so that the arc across the electrodes can form in the correct place. (See Datasheet)", 23 ISENSEIN (in) "The power regulating algorithm in the UCC3305 HID Controller computes a function of lamp current and lamp voltage and commands the appropriate battery current to keep lamp power constant. This appropriate battery current is (See Datasheet)", 24 BAT (in) "This input is used to detect excessively high input voltage and shut down the IC if the input exceeds a predetermined level. Connect BAT to a voltage divider across the input supply. The UCC3305 shuts down when this input (See Datasheet)", 25 NC, 26 COMP "Differences between commanded lamp power and desired lamp power are amplified by an error amplifier.This amplifier senses the difference between the voltage at FB and 2.5V, and drives COMP with an amplified error voltage. A (See Datasheet)", 27 FB (in) "Differences between commanded lamp power and desired lamp power are amplified by an error amplifier.This amplifier senses the difference between the voltage at FB and 2.5V, and drives COMP with an amplified error voltage.", 28 5VREF (out) "Circuitry in the UCC3305 uses the internal 5V reference to set currents and thresholds. This reference can also be used for other functions if required."

## UCC3305N
designator U?
HID Lamp Controller, 5 to 18 V, 0 to 70 degC, 28-pin DIP (N28); Manufacturer: Texas Instruments; PartNumber: UCC3305N; Control Topology: Boost, Flyback; Frequency(Max)(kHz): 200; Open Lamp Detect: TRUE; Rating: Catalog; Vin(Max)(V): 18; Vin(Min)(V): 5; DatasheetVersion: SLUS297B; PackageVersion: 4040053/B; PackageReference: N28; PackageDescription: 28-Pin Plastic In-Line, Body 36.32 x 13.715 mm, Pitch 2.54 mm; Supplier 1: Digi-Key; Supplier Part Number 1: 296-34763-5-ND; Supplier 2: Newark; Supplier Part Number 2: 77C2250; Supplier 3: Mouser; Supplier Part Number 3: 595-UCC3305N; SubFamily: HID Lamp Controller; Mounting Technology: Through Hole; Code_JEDEC: MS-011; ComponentLink1Description: Manufacturer URL; ComponentLink1URL: http://www.ti.com/; ComponentLink2Description: Datasheet; ComponentLink2URL: http://www.ti.com/general/docs/lit/getliterature.tsp?genericPartNumber=UCC3305&fileType=pdf; ComponentLink3Description: Package Specification; ComponentLink3URL: http://www.ti.com/litv/pdf/mpdi008
footprint TI-N28 (DIP, 28-Leads, Body 36.32x13.715 mm, Pitch 2.54 mm)
pins: 1 BYPASS "The UCC3305 compensates for lamp temperature changes by changing the voltage on the SLOPEC and WARMUPC capacitors. These voltages rise as the lamp warms up. An internal calculation determines what power should be applied to (See Datasheet)", 2 SLOPEC "To track lamp warm-up and cool down, two capacitors connected to the UCC3305 charge and discharge.One is connected to SLOPEC. The other is connected to WARMUPC. The capacitor connected to SLOPEC charges up to 5V with a rate (See Datasheet)", 3 WARMUPC (in) "In addition to the capacitor from SLOPEC to GND, lamp temperature is estimated by the voltage on a capacitor from WARMUPC to GND. This capacitor is charged by a 200nA current source to 4.2V and by a 100nA current source from (See Datasheet)", 4 NC, 5 LOADISENSE (in) "Just as ISENSEIN is normally connected to a current sense resistor which monitors battery current, LOADISENSE is normally connected to a resistor which monitors lamp current. Lamp current is then regulated by the controller (See Datasheet)", 6 WARMUPV (out) "The voltage on WARMUPC is used to modulate the signal fed to the error amplifier through FB. However, the impedance on WARMUPC is too high to be directly used. The UCC3305 contains a buffer amplifier which buffers the (See Datasheet)", 7 LPOWER (out) "LOADISENSE directly drives one input of an op amp in the UCC3305. This amplifier amplifies the difference between the desired load current and the actual load current, and generates an output signal on LPOWER which feeds the (See Datasheet)", 8 ADJ (in) "The ratio of cold lamp peak current to warmed-up lamp peak current is controlled by the voltage on ADJ. To select this voltage, connect a resistor from ADJ to GND.", 9 ~{QOUT} (out) "The UCC3305 is immediately configured for DC HID lamps. To operate with AC HID lamps, it is necessary to add a power H-bridge which will toggle lamp voltage. A practical switching frequency for this toggle function is the (See Datasheet)", 10 ISET (in) "Many functions inside the UCC3305 require precise currents to give well controlled performance. These controlled currents are programmed by a resistor from  ISET to GND. A resistor of 100k programs the IC to normal operating (See Datasheet)", 11 VOUTSENSE (in) "The VOUTSENSE input is used to sense lamp voltage, commonly through a 120:1 voltage divider. For a normal, running HID lamp, the voltage across the lamp is between 60V and 110V. It takes higher than 300V to break down the (See Datasheet)", 12 FLTC "The voltage on VOUTSENSE is proportional to lamp voltage. If that voltage is too high or too low, the lamp is either open, shorted, or not yet running. During normal operation, there is a capacitor connected to FLTC, and (See Datasheet)", 13 FLT (out) "If the voltage on the FLTC pin exceeds 5V, indicating a severe fault, then a latch in the UCC3305 sets and PWM drive is halted. In addition, the FLT output goes high to VCC, indicating a serious system fault.", 14 NOTON (out) "While the lamp is in a fault condition, such as excessively high or low lamp voltage, NOTON is pulled high to VCC, indicating that the arc is not yet correct. When the voltage on VOUTSENSE is within the 83mV to 2V window, (See Datasheet)", 15 QOUT (out) "The QOUT pin is a logic output which toggles at the OSC frequency divided by 512, 180 degrees out of phase with the Q\O\U\T\ pin.", 16 VCC (power) "Supply Voltage", 17 PUMPOUT (out) "Although the UCC3305 is powered from the VCC input, most functions of the device operate from a supply voltage of approximately 10V connected to BOOST. In normal operation, this 10V supply is generated by a voltage doubler (See Datasheet)", 18 BOOST (power) "Although the UCC3305 is powered from the VCC input, most functions of the device operate from a supply voltage of approximately 10V connected to BOOST. This 10V supply can be generated by a voltage doubler using PUMPOUT as (See Datasheet)", 19 PWMOUT (out) "The output of the pulse width modulator is a command signal to a power MOSFET switch. This signal appears on PWMOUT. In normal systems,PWM-OUT can be directly connected to the gate of an N-channel power MOSFET such as the (See Datasheet)", 20 GND (power) "Ground for all functions is through this pin.", 21 OSC "The fixed frequency PWM in the UCC3305 operates at the frequency programmed by the OSC pin.Typically, a a 200pF capacitor from OSC to GND programs the PWM frequency at 100kHz. In addition, this programs the charge pump at (See Datasheet)", 22 DIVPAUSE (in) "The QOUT and Q\O\U\T\ outputs can be used to switch lamp polarity in an AC ballast. It is important to stop polarity switching when the lamp is being lit, so that the arc across the electrodes can form in the correct place. (See Datasheet)", 23 ISENSEIN (in) "The power regulating algorithm in the UCC3305 HID Controller computes a function of lamp current and lamp voltage and commands the appropriate battery current to keep lamp power constant. This appropriate battery current is (See Datasheet)", 24 BAT (in) "This input is used to detect excessively high input voltage and shut down the IC if the input exceeds a predetermined level. Connect BAT to a voltage divider across the input supply. The UCC3305 shuts down when this input (See Datasheet)", 25 NC, 26 COMP "Differences between commanded lamp power and desired lamp power are amplified by an error amplifier.This amplifier senses the difference between the voltage at FB and 2.5V, and drives COMP with an amplified error voltage. A (See Datasheet)", 27 FB (in) "Differences between commanded lamp power and desired lamp power are amplified by an error amplifier.This amplifier senses the difference between the voltage at FB and 2.5V, and drives COMP with an amplified error voltage.", 28 5VREF (out) "Circuitry in the UCC3305 uses the internal 5V reference to set currents and thresholds. This reference can also be used for other functions if required."